# Altium schematic symbol library 2021-02-27_19-47-13.SchLib: 2 symbols
Pins are listed as number, name and electrical type; pins without a type are passive.

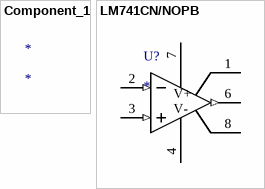
[diagram p0: symbols Component_1 to LM741CN/NOPB]

## Component_1
designator *

## LM741CN/NOPB
designator U?
No Description Available; PartNumber: LM741CN; Manufacturer: NationalSemiconductor; Characteristics: LM741CNGeneralPurposeOpAmp; CompType: OpAmpIC; TaMin_C: 00; TaMax_C: 700; Sim: NoteBalancepinsnotmodeled; ComponentLink1DescBC: LM741Datasheet; ComponentLink2DescA4: LM741WebPage; ComponentLink3DescAC: N08EPackageWebPage; Copyright: Copyright (C) 2018 Accelerated Designs. All rights reserved; SymbolVersion: 2008-07-09; PackageDescription: 8LeadPlasticDIP; PackageReference: N08E_L; RoHS: O; ComponentLink1URL: http//wwwnationalcom/ds/LM/LM741pdf; ComponentLink2URL: http//wwwnationalcom/pf/LM/LM741html; ComponentLink3URL: http//wwwnationalcom/packaging/folders/n08ehtml; Version: B1608; LatestRevisionDate: 2009-03-16; LatestRevisionNote: MassUpdate; Publisher: NationalSemiconductor; Published: 2009-03-16
footprint N08E_L
pins: 1 BAL1, 2 IN- (in), 3 IN+ (in), 4 V- (power), 6 OUT (out), 7 V+ (power), 8 BAL2